# Altium schematic symbol library XL6019.SCHLIB: 1 symbol
Pins are listed as number, name and electrical type; pins without a type are passive.

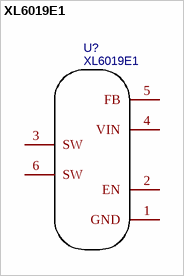
[diagram p0: symbol XL6019E1]

## XL6019E1
designator U?
BOM_Manufacturer: XLSEMI; BOM_Supplier: LCSC; BOM_Manufacturer Part: XL6019E1; BOM_Supplier Part: C73018; BOM_JLCPCB Part Class: Extended Part; spicePre: U; spiceSymbolName: XL6019E1
footprint TO-263-5_L10.2-W9.9-P1.70-LS14.4-TL
pins: 1 GND, 2 EN, 3 SW, 4 VIN, 5 FB, 6 SW